# EAGLE library part WE_687_130_145_22 (library cvogel)
Würth Elekronik 0.5mm SMT ZIF Horizontal Bottom Contact WR-FPC MATERIAL • Housing material: LCP • Flamability rating UL94-V0 • Colour: Ivory • Actuator material: LCP • Colour: Black • Contact material: Phosphor bronze • Contact plating: 100µ Tin over 50µ Ni • Quality class: 25 Mating cycles • Pitch: 0.50 mm ENVIRONMENTAL • Operating temperature: –25 °C up to 85 °C • Compliance: Lead free and RoHS ELECTRICAL • Current rating: 0.4 A • Working voltage: 50 V • Insulation resistance: >100 MOhm • Dielectric withstanding voltage: 250 Vac/mn • Contact resistance: 20 mOhm max SOLDERING • Solder temperature: JEDEC lead free reflow soldering PACKAGING • Tape & Reel
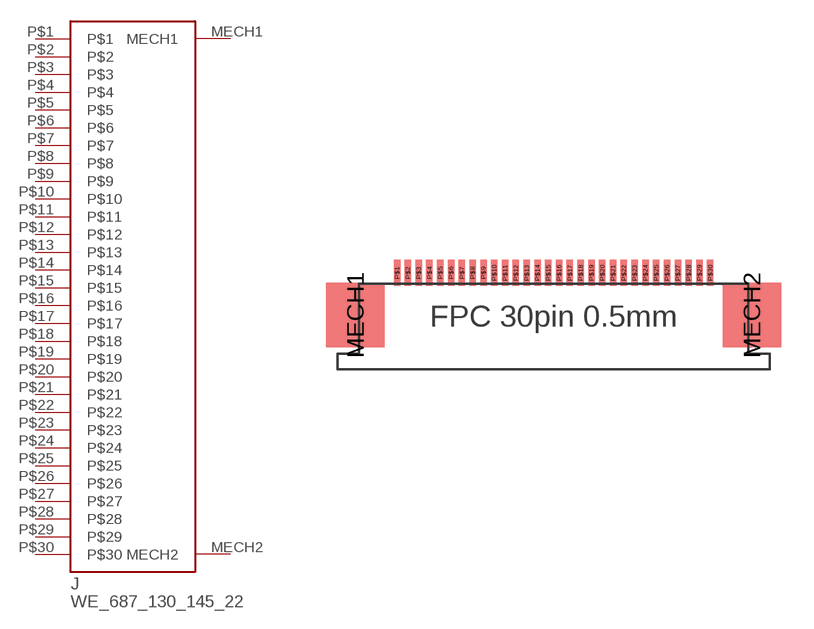
[diagram p8: symbol with the pads of WE_687_130_145_22; footprint WE_687_130_145_22]

Designator prefix J

## WE_687_130_145_22  [WE_687_130_145_22]
MECH1  MECH1
MECH2  MECH2
P$1  P$1
P$2  P$2
P$3  P$3
P$4  P$4
P$5  P$5
P$6  P$6
P$7  P$7
P$8  P$8
P$9  P$9
P$10  P$10
P$11  P$11
P$12  P$12
P$13  P$13
P$14  P$14
P$15  P$15
P$16  P$16
P$17  P$17
P$18  P$18
P$19  P$19
P$20  P$20
P$21  P$21
P$22  P$22
P$23  P$23
P$24  P$24
P$25  P$25
P$26  P$26
P$27  P$27
P$28  P$28
P$29  P$29
P$30  P$30

## Footprint WE_687_130_145_22 (pad centres in mm)
smd 2.7 x 3: MECH1 -9.18,-1.95; MECH2 9.18,-1.95
smd 0.3 x 1.2: P$1 -7.25,0; P$2 -6.75,0; P$3 -6.25,0; P$4 -5.75,0; P$5 -5.25,0; P$6 -4.75,0; P$7 -4.25,0; P$8 -3.75,0; P$9 -3.25,0; P$10 -2.75,0; P$11 -2.25,0; P$12 -1.75,0; P$13 -1.25,0; P$14 -0.75,0; P$15 -0.25,0; P$16 0.25,0; P$17 0.75,0; P$18 1.25,0; P$19 1.75,0; P$20 2.25,0; P$21 2.75,0; P$22 3.25,0; P$23 3.75,0; P$24 4.25,0; P$25 4.75,0; P$26 5.25,0; P$27 5.75,0; P$28 6.25,0; P$29 6.75,0; P$30 7.25,0